# Altium schematic symbol library CAT10-101J4LF.SchLib: 1 symbol
Pins are listed as number, name and electrical type; pins without a type are passive.

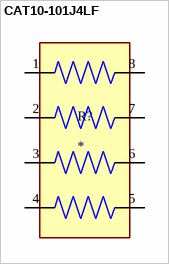
[diagram p0: symbol CAT10-101J4LF]

## CAT10-101J4LF
designator R?
1k Ohm Â±5% 62.5mW Power Per Element Isolated Resistor Network/Array Â±250ppm/Â°C 0804, Concave, Long Side Terminals; MP: CAT10-101J4LF; Package: None; Price: None; Value: *; Availability: Unavailable
footprint RESCAV50P200X100X55-8N
pins: 1, 2, 3, 4, 5, 6, 7, 8